# Altium footprint library FT231XS-R.PcbLib: 2 footprints
Each footprint in its own frame and in the unit in brackets; x right, y up, seen from the top. Pads: shape width x height; smd on the part's side, far side on the other; paste and mask are expansions set on the pad; w line width, h text height; cw(c..) or ccw(c..) is an arc to the next point about the centre after c.
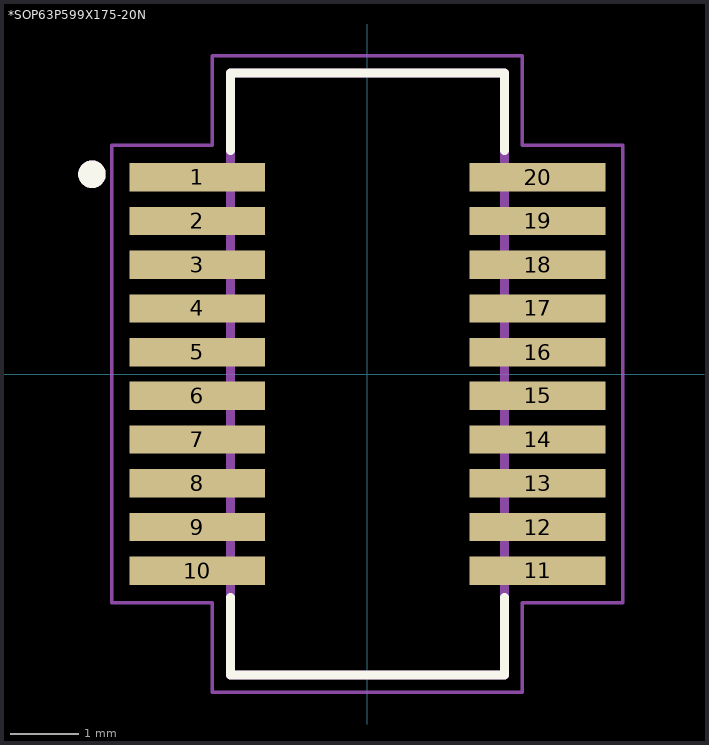
[diagram p0: the footprints below, top view; thin cyan lines are the x and y axes]

## *SOP63P599X175-20N [mm]
pads (20):
  rect 1.97x0.41 smd: 1(-2.47,2.857) 2(-2.47,2.222) 3(-2.47,1.587) 4(-2.47,0.953) 5(-2.47,0.318) 6(-2.47,-0.318) 7(-2.47,-0.953) 8(-2.47,-1.587) 9(-2.47,-2.222) 10(-2.47,-2.857) 11(2.47,-2.857) 12(2.47,-2.222) 13(2.47,-1.587) 14(2.47,-0.953) 15(2.47,-0.318) 16(2.47,0.318) 17(2.47,0.953) 18(2.47,1.587) 19(2.47,2.222) 20(2.47,2.857)
Top Overlay:
  circle w0.2: c-4,2.9 r0.1
  lines w0.127: -1.99,-3.24 -1.99,-4.37 1.99,-4.37 1.99,-3.24 ; -1.99,3.24 -1.99,4.37 1.99,4.37 1.99,3.24
Mechanical 4:
  circle w0.2: c-4,2.9 r0.1
  circle w0.2: c-4,2.9 r0.1
  lines w0.127: -1.99,-4.37 1.99,-4.37 ; -1.99,-4.37 -1.99,4.37 ; -1.99,-4.37 1.99,-4.37 ; -1.99,-4.37 -1.99,4.37 ; -1.99,4.37 1.99,4.37 ; -1.99,4.37 1.99,4.37 ; 1.99,-4.37 1.99,4.37 ; 1.99,-4.37 1.99,4.37
Mechanical 16:
  lines w0.05: -3.71,-3.32 -3.71,3.32 -2.25,3.32 -2.25,4.62 2.25,4.62 2.25,3.32 3.71,3.32 3.71,-3.32 2.25,-3.32 2.25,-4.62 -2.25,-4.62 -2.25,-3.32 -3.71,-3.32

## PCBComponent_1 [mm]